# Altium footprint library CONNECTOR.PcbLib: 2 footprints
Each footprint in its own frame and in the unit in brackets; x right, y up, seen from the top. Pads: shape width x height; smd on the part's side, far side on the other; paste and mask are expansions set on the pad; w line width, h text height; cw(c..) or ccw(c..) is an arc to the next point about the centre after c.
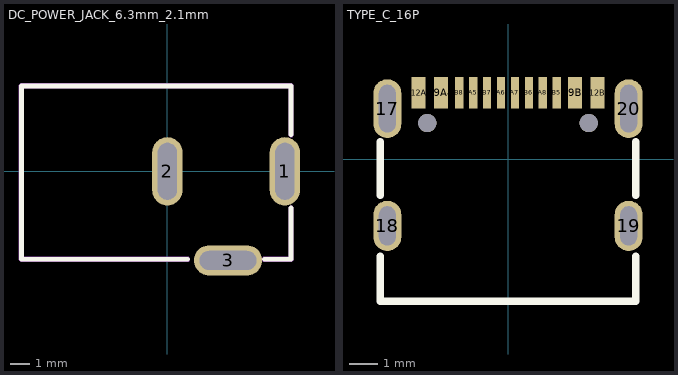
[diagram p0: the footprints below, top view; thin cyan lines are the x and y axes]

## DC_POWER_JACK_6.3mm_2.1mm [mm]
pads (3):
  oval 1.6x3.6 hole 1 slot 3 at 90 deg paste-2539.97 mask+0.051: 1(6.2,0) 2(0,0)
  oval 3.6x1.6 hole 1 slot 3 at 0 deg paste-2539.97 mask+0.051: 3(3.2,-4.7)
Top Overlay:
  lines w0.254: 1.066,-4.636 -7.7,-4.636 -7.7,4.508 6.524,4.508 6.524,1.937 ; 5.124,-4.636 6.524,-4.636 6.524,-1.937
Mechanical 15:
  region: 5.124,-4.509 6.397,-4.509 6.397,-1.937 6.397,-1.885 6.471,-1.81 6.577,-1.81 6.651,-1.885 6.651,-1.937 6.651,-4.636 6.651,-4.661 6.632,-4.708 6.596,-4.744 6.549,-4.763 6.524,-4.763 5.124,-4.763 5.072,-4.763 4.997,-4.689 4.997,-4.583 5.072,-4.509 5.124,-4.509
  region: 6.397,1.937 6.397,4.381 -7.573,4.381 -7.573,-4.509 1.066,-4.509 1.118,-4.509 1.193,-4.583 1.193,-4.689 1.118,-4.763 1.066,-4.763 -7.7,-4.763 -7.725,-4.763 -7.772,-4.744 -7.808,-4.708 -7.827,-4.661 -7.827,-4.636 -7.827,4.508 -7.827,4.533 -7.808,4.58 -7.772,4.616 -7.725,4.635 -7.7,4.635 6.524,4.635 6.549,4.635 6.596,4.616 6.632,4.58 6.651,4.533 6.651,4.508 6.651,1.937 6.651,1.885 6.577,1.81 6.471,1.81 6.397,1.885 6.397,1.937
3D body "xb-dc-005-5a-2_0.stp": height 11.09, standoff -3.51, extent -7.723,-4.954 6.477,4.446

## TYPE_C_16P [mm]
pads (18):
  oval 1x2.1 hole 0.6 slot 1.7 at 90 deg paste-2539.97 mask+0.051: 17(-4.32,1.816) 20(4.32,1.816)
  oval 1x1.8 hole 0.6 slot 1.4 at 90 deg paste-2539.97 mask+0.051: 18(-4.32,-2.384) 19(4.32,-2.384)
  rect 0.3x1.14 smd paste+0 mask+0.051: A5(-1.25,2.383) A6(-0.25,2.383) A7(0.25,2.383) A8(1.25,2.384) B5(1.75,2.383) B6(0.75,2.383) B7(-0.75,2.383) B8(-1.75,2.384)
  rect 0.5x1.14 smd paste+0 mask+0.051: A9B4(2.4,2.383) A12B1(3.2,2.383) B9A4(-2.4,2.383) B12A1(-3.2,2.383)
  round 0.65 hole 0.65 unplated paste-2539.97: ""(-2.89,1.296) ""(2.89,1.296)
Top Overlay:
  lines w0.254: -4.572,-3.47 -4.572,-5.08 4.572,-5.08 4.572,-3.47 ; -4.572,-1.298 -4.572,0.63 ; 4.572,-1.298 4.572,0.63
Mechanical 15:
  circle w0.25: c-2.89,1.296 r0.125
  circle w0.25: c2.89,1.296 r0.125
3D body "u262-161n-4bvc11.stp": height 3.25, standoff -1.01, extent -4.45,-4.699 4.45,2.861